# Altium schematic symbol library drossel.SchLib: 20 symbols
Pins are listed as number, name and electrical type; pins without a type are passive.

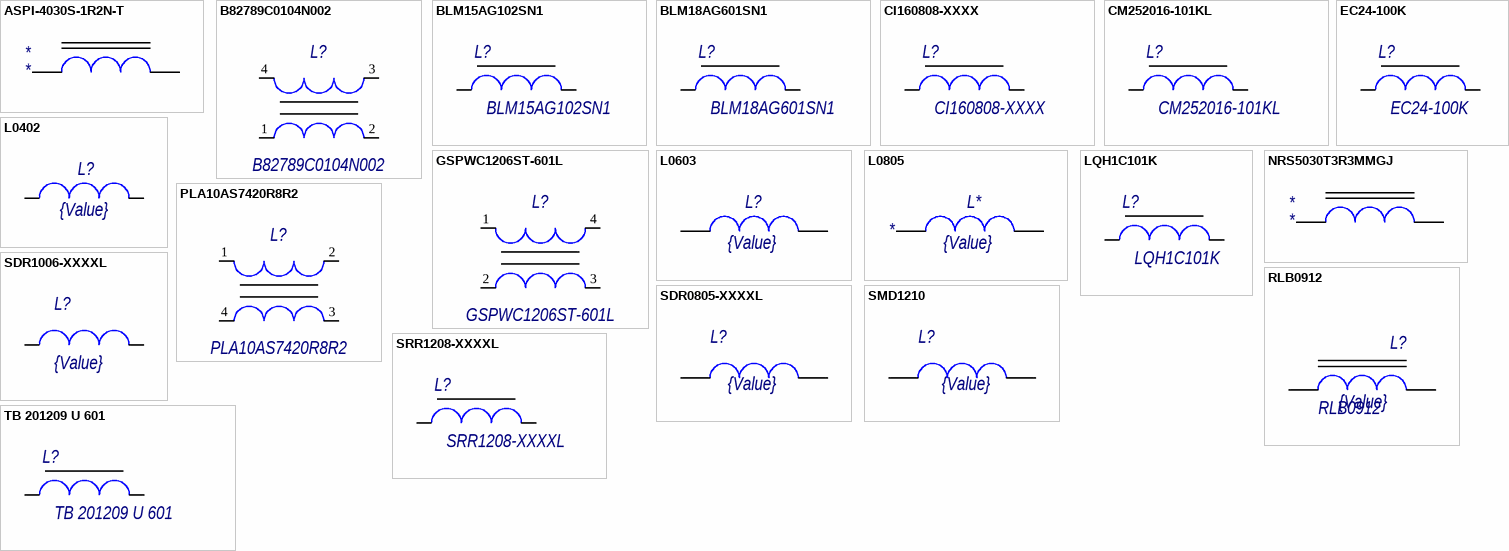
[diagram p0: symbols ASPI-4030S-1R2N-T to TB 201209 U 601]

## ASPI-4030S-1R2N-T
designator *
footprint ASPI-4030S
pins: 1 A, 2 B

## B82789C0104N002
designator L?
Value: *
footprint SMD1812
pins: 1, 2, 3, 4

## BLM15AG102SN1
designator L?
Value: *
footprint SMD0402
pins: 1 A, 2 B

## BLM18AG601SN1
designator L?
Value: *
footprint SMD0603
pins: 1 A, 2 B

## CI160808-XXXX
designator L?
Value: *
footprint SMD0603_CI160808-XXXX(Primary)
pins: 1 A, 2 B

## CM252016-101KL
designator L?
Value: *
footprint SMD1008
pins: 1 A, 2 B

## EC24-100K
designator L?
Value: *
footprint RPREC
pins: 1 A, 2 B

## GSPWC1206ST-601L
designator L?
Value: *
footprint SMD1206_4PIN
pins: 1, 2, 3, 4

## L0402
designator L?  value {Value}  (hidden comment: L0402)
Drossel
footprint SMD0402
pins: 1 A, 2 B

## L0603
designator L?  value {Value}  (hidden comment: L0603)
Drossel
footprint SMD0603
pins: 1 A, 2 B

## L0805
designator L*  value {Value}
Drossel
footprint SMD0805
pins: 1 A, 2 B

## LQH1C101K
designator L?
Value: *
footprint SMD1206
pins: 1 A, 2 B

## NRS5030T3R3MMGJ
designator *
footprint NRS5030T3R3MMGJ
pins: 1 A, 2 B

## PLA10AS7420R8R2
designator L?
Value: *
footprint PLA10
pins: 1, 2, 3, 4

## RLB0912
designator L?  value {Value}
footprint RLB0912
pins: 1 A, 2 B

## SDR0805-XXXXL
designator L?  value {Value}  (hidden comment: SDR0805-XXXXL)
footprint SDR0805
pins: 1 A, 2 B

## SDR1006-XXXXL
designator L?  value {Value}  (hidden comment: SDR1006-XXXXL)
footprint SDR1006
pins: 1 A, 2 B

## SMD1210
designator L?  value {Value}  (hidden comment: SMD1210)
footprint SMD1210_SMD1210(Primary)
pins: 1 A, 2 B

## SRR1208-XXXXL
designator L?
Value: *
footprint SRR1208-XXXXL
pins: 1 A, 2 B

## TB 201209 U 601
designator L?
Value: *
footprint SMD0805
pins: 1 B, 2 A